# Altium footprint library PY32_TSSOP20_PCB_V1.1.PcbLib: 9 footprints
Each footprint in its own frame and in the unit in brackets; x right, y up, seen from the top. Pads: shape width x height; smd on the part's side, far side on the other; paste and mask are expansions set on the pad; w line width, h text height; cw(c..) or ccw(c..) is an arc to the next point about the centre after c.
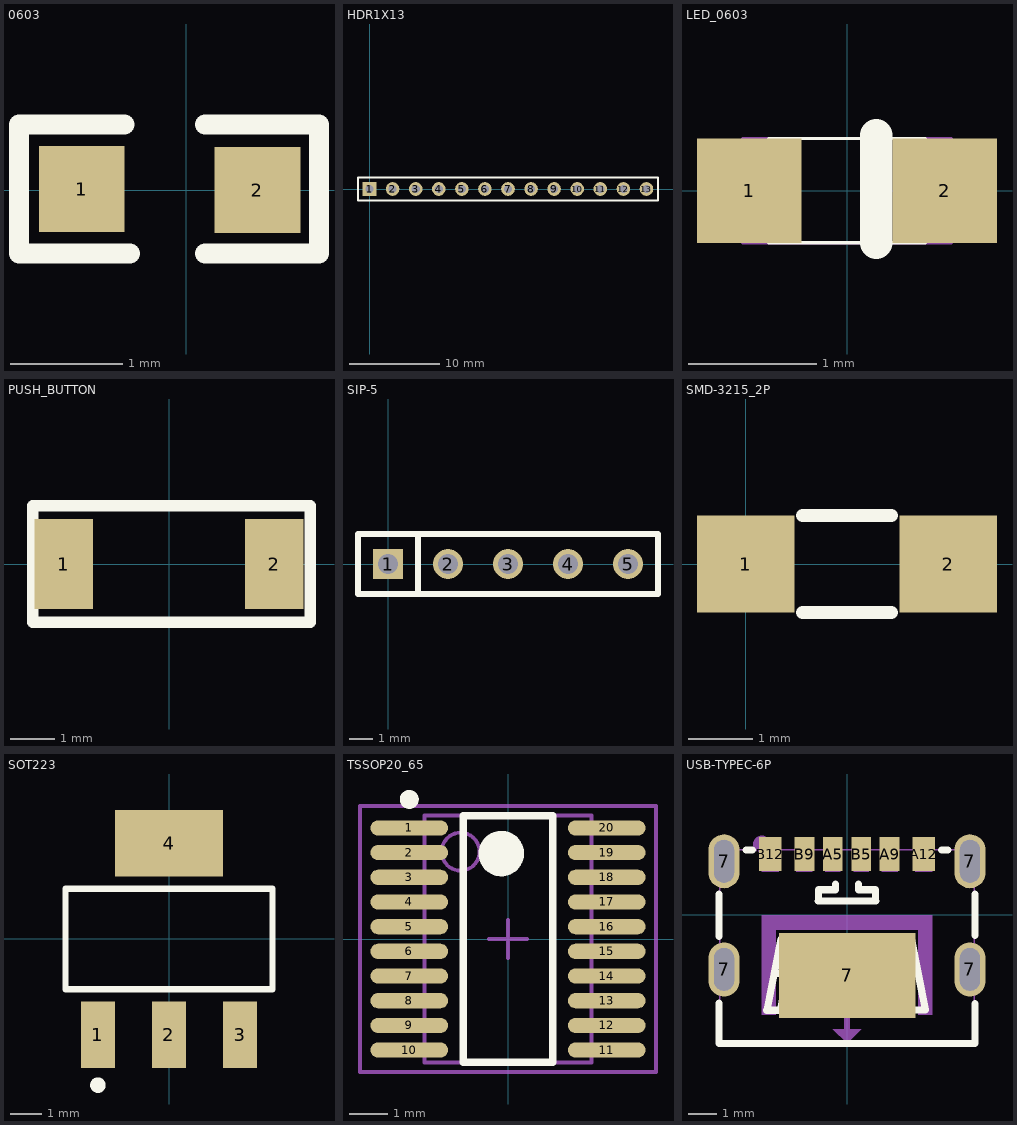
[diagram p0: the footprints below, top view; thin cyan lines are the x and y axes]

## 0603 [mil]
height 47.24
pads (2):
  rect 30x30 smd: 1(-36.46,0.35) 2(25,0)
Top Overlay:
  lines w7: -21.61,22.99 -58.46,22.99 -58.46,-22.28 -19.65,-22.28 ; 6.69,-22.28 46.54,-22.28 46.54,22.99 6.69,22.99

## HDR1X13 [mm] "Connector; Header; 13 Position"
pads (13):
  rect 1.5x1.5 hole 0.9: 1(0,0)
  round 1.5 hole 0.9: 2(2.54,0) 3(5.08,0) 4(7.62,0) 5(10.16,0) 6(12.7,0) 7(15.24,0) 8(17.78,0) 9(20.32,0) 10(22.86,0) 11(25.4,0) 12(27.94,0) 13(30.48,0)
Top Overlay:
  lines w0.2: -1.27,-1.27 31.75,-1.27 31.75,1.27 0.635,1.27 -1.27,1.27 -1.27,-1.27

## LED_0603 [mil]
pads (2):
  rect 32x32 smd: 1(-30,0) 2(30,0)
Top Overlay:
  lines w1: 9,-16 9,16 ; -24,-16 24,-16 24,16 -24,16 -24,-16
  lines w10: 9,-16 9,17
Mechanical 2:
  lines w1: -32,-16 32,-16 32,16 -32,16 -32,-16

## PUSH_BUTTON [mm]
pads (2):
  rect 1.3x2 smd: 1(-2.35,0) 2(2.35,0)
Top Overlay:
  lines w0.254: -3.045,-1.3 3.155,-1.3 3.155,1.3 -3.045,1.3 -3.045,-1.3
Mechanical 2:
  lines w0.003: -3.045,-1.3 3.055,-1.3 3.055,1.3 -3.045,1.3 -3.045,-1.3

## SIP-5 [mm]
pads (5):
  rect 1.27x1.27 hole 0.85: 1(0,0)
  round 1.27 hole 0.85: 2(2.54,0) 3(5.08,0) 4(7.62,0) 5(10.16,0)
Top Overlay:
  lines w0.254: 1.27,-1.27 1.27,1.27 ; -1.27,-1.27 -1.27,1.27 11.43,1.27 11.43,-1.27 -1.27,-1.27

## SMD-3215_2P [mil]
pads (2):
  rect 60x60 smd: 1(0,0) 2(125,0)
Top Overlay:
  lines w8: 35,-30 90,-30 ; 35,30 90,30

## SOT223 [mm]
pads (4):
  rect 1.1x2.15 smd: 1(-2.303,-3.108) 2(-0.003,-3.108) 3(2.297,-3.108)
  rect 3.5x2.15 smd: 4(-0.003,3.092)
Top Overlay:
  circle w0.25: c-2.303,-4.733 r0.125
  lines w0.2: -3.353,-1.633 -3.353,1.617 3.347,1.617 3.347,-1.633 -3.353,-1.633

## TSSOP20_65 [mm] "TSOP, 20-Leads, Body 6.5x4.4mm (max), Pitch 0.65mm, IPC Medium Density"
height 1.2
pads (20):
  oval 2.05x0.4 smd: 1(-2.6,2.925) 2(-2.6,2.275) 3(-2.6,1.625) 4(-2.6,0.975) 5(-2.6,0.325) 6(-2.6,-0.325) 7(-2.6,-0.975) 8(-2.6,-1.625) 9(-2.6,-2.275) 10(-2.6,-2.925) 11(2.6,-2.925) 12(2.6,-2.275) 13(2.6,-1.625) 14(2.6,-0.975) 15(2.6,-0.325) 16(2.6,0.325) 17(2.6,0.975) 18(2.6,1.625) 19(2.6,2.275) 20(2.6,2.925)
Top Overlay:
  circle w0.6: c-0.175,2.25 r0.3
  circle w0.25: c-2.6,3.675 r0.125
  lines w0.2: -1.175,-3.25 1.175,-3.25 1.175,3.25 -1.175,3.25 -1.175,-3.25
Mechanical 13:
  circle w0.1: c-1.25,2.3 r0.5
  lines w0.1: -2.2,-3.25 2.2,-3.25 2.2,3.25 -2.2,3.25 -2.2,-3.25
Mechanical 15:
  lines w0.1: -0.5,0 0.5,0 ; 0,-0.5 0,0.5 ; -3.9,-3.5 3.9,-3.5 3.9,3.5 -3.9,3.5 -3.9,-3.5
3D body: height 1.2, standoff 0.1, extent -2.2,-3.25 2.2,3.25

## USB-TYPEC-6P [mm]
pads (11):
  oval 1.1x1.9 hole 0.7 slot 1.5 at 90 deg: 7(-4.32,-1.919) 7(-4.32,1.881) 7(4.32,-1.919) 7(4.32,1.881)
  rect 4.8x3 smd: 7(0.01,-2.131)
  rect 0.7x1.2 smd: A5(-0.5,2.131) A9(1.5,2.131) B5(0.5,2.131) B9(-1.5,2.131)
  rect 0.8x1.2 smd: A12(2.7,2.131) B12(-2.7,2.131)
Top Overlay:
  lines w0.25: -4.501,-3.12 -4.501,-3.097 -4.501,-4.52 4.501,-4.52 4.501,-3.12 ; -4.5,-0.761 -4.5,0.681 -4.5,0.723 ; -3.541,2.281 -3.329,2.281 ; -1.01,0.481 1.01,0.481 ; -1,0.481 -1,0.881 -0.4,0.881 -0.4,1.081 ; 0.4,1.081 0.4,0.881 1,0.881 1,0.481 ; 3.329,2.281 3.541,2.281 ; 4.5,-0.719 4.5,0.731
  lines w0.254: -2.518,-2.052 -2.119,-2.052 ; -1.219,-2.051 -0.819,-2.051 ; 0.759,-2.047 1.158,-2.047 ; 2.058,-2.046 2.458,-2.046 ; -2.818,-3.352 -2.343,-3.352 -1.941,-1.252 -1.413,-1.252 -1.014,-3.352 -0.519,-3.352 -1.019,-0.85 -2.32,-0.85 -2.818,-3.352 ; 0.459,-3.347 0.934,-3.347 1.335,-1.247 1.864,-1.247 2.263,-3.347 2.758,-3.347 2.257,-0.845 0.957,-0.845 0.459,-3.347
Top Paste:
  drawing of 10 lines, arcs and shapes, not listed
Mechanical 6:
  circle w0.3: c-3,2.481 r0.15
  region: -0.1,-4.019 -0.1,-2.019 0.1,-2.019 0.1,-4.019
  region: -0.5,-4.019 0.5,-4.019 0,-4.519
  region: -2.5,-0.019 2.5,-0.019 2.5,-0.519 -2.5,-0.519
  region: 3,-3.519 3,-0.019 2.5,-0.019 2.5,-3.519
  region: -3,-3.519 -3,-0.019 -2.5,-0.019 -2.5,-3.519
Mechanical 7:
  lines w0.051: -4.47,-4.519 4.47,-4.519 4.47,2.281 -4.47,2.281 -4.47,-4.519
Mechanical 9:
  region: -3,2.256 -2.4,2.256 -2.4,1.506 -3,1.506
  region: 2.4,2.256 3,2.256 3,1.506 2.4,1.506
  region: -1.78,2.256 -1.22,2.256 -1.22,1.506 -1.78,1.506
  region: 1.22,2.256 1.78,2.256 1.78,1.506 1.22,1.506
  region: 0.24,2.256 0.76,2.256 0.76,1.506 0.24,1.506
  region: -0.76,2.256 -0.24,2.256 -0.24,1.506 -0.76,1.506
  region: -4.47,2.281 -4.17,2.281 -4.17,1.481 -4.47,1.481
  region: -4.47,-1.519 -4.17,-1.519 -4.17,-2.319 -4.47,-2.319
  region: 4.17,-1.519 4.47,-1.519 4.47,-2.319 4.17,-2.319
  region: 4.17,2.281 4.47,2.281 4.47,1.481 4.17,1.481